# EAGLE library part NHD-0208BZ-FL-YBW (library NHD-0208BZ-FL-YBW)
LCD Character Display Modules & Accessories STN- Y/G Transfl 58.0 x 32.0 Source: Datasheet <https://www.newhavendisplay.com/specs/NHD-0208BZ-FL-YBW.pdf>
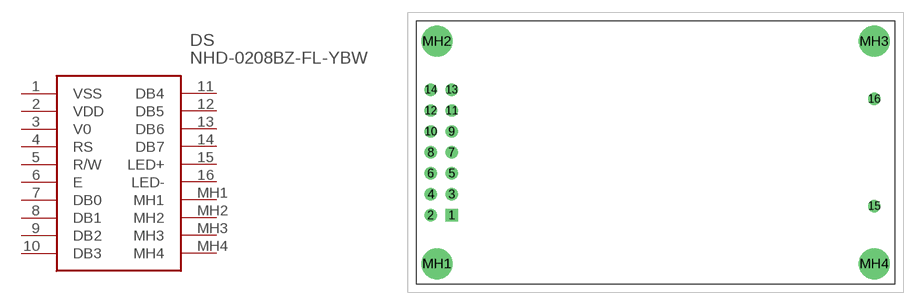
[diagram p0: symbol with the pads of NHD0208BZFLYBW; footprint NHD0208BZFLYBW]

Designator prefix DS

## NHD-0208BZ-FL-YBW (Description: LCD Character Display Modules & Accessories STN- Y/G Transfl 58.0 x 32.0; Height: 13.5mm; Manufacturer_Name: Newhaven Display; Manufacturer_Part_Number: NHD-0208BZ-FL-YBW; Mouser_Part_Number: 763-0208BZ-FL-YBW; Mouser_Price-Stock: https://www.mouser.co.uk/ProductDetail/Newhaven-Display/NHD-0208BZ-FL-YBW?qs=3vk7fz9CmNzi22V9hm7pfQ%3D%3D)  [NHD0208BZFLYBW]
1  VSS
2  VDD
3  V0
4  RS
5  R/W
6  E
7  DB0
8  DB1
9  DB2
10  DB3
11  DB4
12  DB5
13  DB6
14  DB7
15  LED+
16  LED-
MH1  MH1
MH2  MH2
MH3  MH3
MH4  MH4

## Footprint NHD0208BZFLYBW (pad centres in mm)
NHD-0208BZ-FL-YBW-3
drill 1 pad 1.5 square: 1 0,0
drill 1 pad 1.5: 2 -2.54,0; 3 0,2.54; 4 -2.54,2.54; 5 0,5.08; 6 -2.54,5.08; 7 0,7.62; 8 -2.54,7.62; 9 0,10.16; 10 -2.54,10.16; 11 0,12.7; 12 -2.54,12.7; 13 0,15.24; 14 -2.54,15.24; 15 51.21,1.12; 16 51.21,14.12
drill 2.5 pad 3.75: MH1 -1.79,-5.88; MH2 -1.79,21.12; MH3 51.21,21.12; MH4 51.21,-5.88